# Altium schematic symbol library Button - Tactile.SchLib: 16 symbols
Pins are listed as number, name and electrical type; pins without a type are passive.

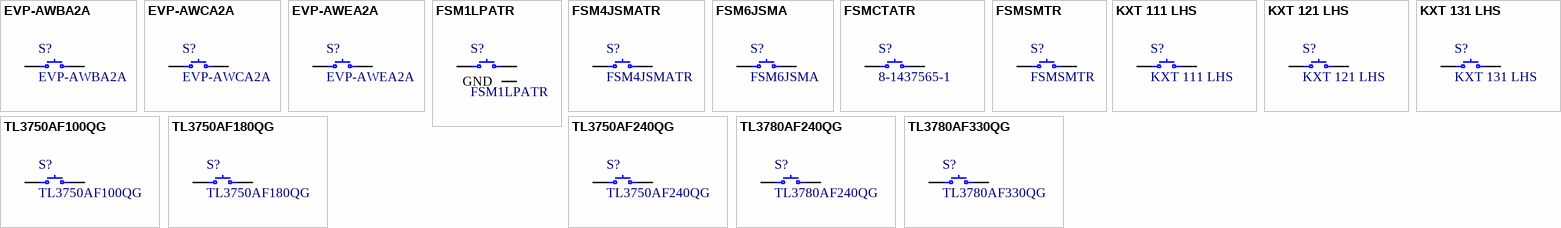
[diagram p0: symbols EVP-AWBA2A to TL3780AF330QG]

## EVP-AWBA2A
designator S?
SWITCH TACTILE SPST-NO 0.02A 15V; Manufacturer: Panasonic Electronic Components; Switch Function: Off-Mom; Contact Rating @ Voltage: 0.02A @ 15VDC; Actuator Type: Standard; Actuator Orientation: Top Actuated; Illumination: Non-Illuminated; Operating Force: 160gf; Outline: 3.00mm x 2.00mm; Part Number: EVP-AWBA2A; PartId: 16464; Supplier 1: Digi-Key; Supplier Part Number 1: P16850CT-ND; ComponentLink1Description: Datasheet; ComponentLink1URL: https://industrial.panasonic.com/cdbs/www-data/pdf/ATK0000/ATK0000C24.pdf; ComponentLink2Description: Digi-Key Listing; ComponentLink2URL: https://www.digikey.com/product-detail/en/panasonic-electronic-components/EVP-AWBA2A/P16850CT-ND/4930595; Price: 0.7; Series: EVPAW; Circuit: SPST-NO
footprint Panasonic EVPAW
pins: 1, 2

## EVP-AWCA2A
designator S?
SWITCH TACTILE SPST-NO 0.02A 15V; Manufacturer: Panasonic Electronic Components; Switch Function: Off-Mom; Contact Rating @ Voltage: 0.02A @ 15VDC; Actuator Type: Standard; Actuator Orientation: Top Actuated; Illumination: Non-Illuminated; Operating Force: 240gf; Outline: 3.00mm x 2.00mm; Part Number: EVP-AWCA2A; PartId: 16466; Supplier 1: Digi-Key; Supplier Part Number 1: P16851CT-ND; ComponentLink1Description: Datasheet; ComponentLink1URL: https://industrial.panasonic.com/cdbs/www-data/pdf/ATK0000/ATK0000C24.pdf; ComponentLink2Description: Digi-Key Listing; ComponentLink2URL: https://www.digikey.com/product-detail/en/panasonic-electronic-components/EVP-AWCA2A/P16851CT-ND/4930596; Price: 0.77; Series: EVPAW; Circuit: SPST-NO
footprint Panasonic EVPAW
pins: 1, 2

## EVP-AWEA2A
designator S?
SWITCH TACTILE SPST-NO 0.02A 15V; Manufacturer: Panasonic Electronic Components; Switch Function: Off-Mom; Contact Rating @ Voltage: 0.02A @ 15VDC; Actuator Type: Standard; Actuator Orientation: Top Actuated; Illumination: Non-Illuminated; Operating Force: 330gf; Outline: 3.00mm x 2.00mm; Part Number: EVP-AWEA2A; PartId: 16465; Supplier 1: Digi-Key; Supplier Part Number 1: P16852CT-ND; ComponentLink1Description: Datasheet; ComponentLink1URL: https://industrial.panasonic.com/cdbs/www-data/pdf/ATK0000/ATK0000C24.pdf; ComponentLink2Description: Digi-Key Listing; ComponentLink2URL: https://www.digikey.com/product-detail/en/panasonic-electronic-components/EVP-AWEA2A/P16852CT-ND/4930597; Price: 0.77; Series: EVPAW; Circuit: SPST-NO
footprint Panasonic EVPAW
pins: 1, 2

## FSM1LPATR
designator S?
SWITCH TACTILE SPST-NO 0.05A 24V; Manufacturer: TE Connectivity Alcoswitch Switches; Switch Function: Off-Mom; Contact Rating @ Voltage: 0.05A @ 24VDC; Actuator Type: Standard; Actuator Orientation: Top Actuated; Illumination: Non-Illuminated; Operating Force: 260gf; Switch Travel: 0.25mm; Mechanical Life: 100,000 Cycles; Part Number: FSM1LPATR; PartId: 8250; Supplier 1: Digi-Key; Supplier Part Number 1: 450-1760-2-ND; ComponentLink1Description: Datasheet; ComponentLink1URL: http://www.te.com/commerce/DocumentDelivery/DDEController?Action=srchrtrv&DocNm=1-1437565-8&DocType=Customer+Drawing&DocLang=English; ComponentLink2Description: Digi-Key Listing; ComponentLink2URL: http://www.digikey.com/product-detail/en/FSM1LPATR/450-1760-2-ND/1201299; Price: 0.151; Circuit: SPST-NO; Illumination Voltage: -; Illumination Type, Colour: -; Operating Temperature: -35C ~ 85C
footprint TE FSM1LPATR
pins: 1, 2, 3, 4, 5 GND

## FSM4JSMATR
designator S?
SWITCH TACTILE SPST-NO 0.05A 24V; Manufacturer: TE Connectivity Alcoswitch Switches; Switch Function: Off-Mom; Contact Rating @ Voltage: 0.05A @ 24VDC; Actuator Type: Standard; Actuator Orientation: Top Actuated; Illumination: Non-Illuminated; Operating Force: 160gf; Switch Travel: 0.25mm; Mechanical Life: 100,000 Cycles; Part Number: FSM4JSMATR; PartId: 8249; Supplier 1: Digi-Key; Supplier Part Number 1: 450-1759-2-ND; ComponentLink1Description: Datasheet; ComponentLink1URL: http://www.te.com/commerce/DocumentDelivery/DDEController?Action=srchrtrv&DocNm=2-1437565-7&DocType=Customer+Drawing&DocLang=English; ComponentLink2Description: Digi-Key Listing; ComponentLink2URL: http://www.digikey.com/product-detail/en/FSM4JSMATR/450-1759-2-ND/529675; Price: 0.128; Circuit: SPST-NO; Illumination Voltage: -; Illumination Type, Colour: -; Operating Temperature: -35C ~ 85C
footprint TE FSM4JSMA
pins: 1, 2, 3, 4

## FSM6JSMA
designator S?
SWITCH TACTILE SPST-NO 0.05A 24V; Manufacturer: TE Connectivity Alcoswitch Switches; Switch Function: Off-Mom; Contact Rating @ Voltage: 0.05A @ 24VDC; Actuator Type: Standard; Actuator Orientation: Top Actuated; Illumination: Non-Illuminated; Operating Force: 160gf; Switch Travel: 0.25mm; Mechanical Life: 100,000 Cycles; Part Number: FSM6JSMA; PartId: 7910; Supplier 1: Digi-Key; Supplier Part Number 1: 450-1133-ND; ComponentLink1Description: Datasheet; ComponentLink1URL: http://www.te.com/commerce/DocumentDelivery/DDEController?Action=srchrtrv&DocNm=2-1437565-7&DocType=Customer+Drawing&DocLang=English; ComponentLink2Description: Digi-Key Listing; ComponentLink2URL: http://www.digikey.com/product-detail/en/FSM6JSMA/450-1133-ND/525822; Price: 0.24; Circuit: SPST-NO; Illumination Voltage: -; Illumination Type, Colour: -; Operating Temperature: -35C ~ 85C
footprint TE FSM6JSMA
pins: 1, 2, 3, 4

## FSMCTATR
designator S?, comment 8-1437565-1
SWITCH TACTILE SPST-NO 0.02A 15V; Manufacturer: TE Connectivity ALCOSWITCH Switches; Switch Function: Off-Mom; Contact Rating @ Voltage: 0.02A @ 15VDC; Actuator Type: Standard; Actuator Orientation: Top Actuated; Illumination: Non-Illuminated; Operating Force: 260gf; Switch Travel: 0.25mm; Mechanical Life: 500,000 Cycles; Part Number: 8-1437565-1; Supplier 1: Digi-Key; Supplier Part Number 1: 450-1941-2-ND; ComponentLink1Description: Datasheet; ComponentLink1URL: https://www.te.com/commerce/DocumentDelivery/DDEController?Action=srchrtrv&DocNm=8-1437565-0&DocType=Customer+Drawing&DocLang=English; ComponentLink2Description: Digi-Key Listing; ComponentLink2URL: https://www.digikey.com/product-detail/en/te-connectivity-alcoswitch-switches/8-1437565-1/450-1941-2-ND/5400326; Price: 0.34; Circuit: SPST-NO; Illumination Voltage: -; Illumination Type, Colour: -; Operating Temperature: -35C ~ 85C
footprint TE FSMCT
pins: 1, 2, 3, 4

## FSMSMTR
designator S?
SWITCH TACTILE SPST-NO 0.05A 24V; Manufacturer: TE Connectivity Alcoswitch Switches; Switch Function: Off-Mom; Contact Rating @ Voltage: 0.05A @ 24VDC; Actuator Type: Standard; Actuator Orientation: Top Actuated; Illumination: Non-Illuminated; Operating Force: 180gf; Switch Travel: 0.25mm; Mechanical Life: 20,000 Cycles; Part Number: FSMSMTR; PartId: 8251; Supplier 1: Digi-Key; Supplier Part Number 1: 450-1758-2-ND; ComponentLink1Description: Datasheet; ComponentLink1URL: http://www.te.com/commerce/DocumentDelivery/DDEController?Action=srchrtrv&DocNm=1437566-3&DocType=Customer+Drawing&DocLang=English; ComponentLink2Description: Digi-Key Listing; ComponentLink2URL: http://www.digikey.com/product-detail/en/FSMSMTR/450-1758-2-ND/529671; Price: 0.175; Circuit: SPST-NO; Illumination Voltage: -; Illumination Type, Colour: -; Operating Temperature: -35C ~ 85C
footprint TE FSMSMTR
pins: 1, 2

## KXT 111 LHS
designator S?
SWITCH TACTILE SPST-NO 0.05A 12V; Manufacturer: C&K Components; Switch Function: Off-Mom; Contact Rating @ Voltage: 0.05A @ 12VDC; Actuator Type: Standard; Actuator Orientation: Top Actuated; Illumination: Non-Illuminated; Operating Force: 100gf; Outline: 3.00mm x 2.00mm; Part Number: KXT 111 LHS; PartId: 16459; Supplier 1: Digi-Key; Supplier Part Number 1: CKN10584CT-ND; ComponentLink1Description: Datasheet; ComponentLink1URL: http://www.ck-components.com/media/1465/kxt_12feb16.pdf; ComponentLink2Description: Digi-Key Listing; ComponentLink2URL: https://www.digikey.com/product-detail/en/c-k-components/KXT-111-LHS/CKN10584CT-ND/5270313; Price: 0.25; Series: KXT; Circuit: SPST-NO
footprint C&K KXT
pins: 1, 2

## KXT 121 LHS
designator S?
SWITCH TACTILE SPST-NO 0.05A 12V; Manufacturer: C&K Components; Switch Function: Off-Mom; Contact Rating @ Voltage: 0.05A @ 12VDC; Actuator Type: Standard; Actuator Orientation: Top Actuated; Illumination: Non-Illuminated; Operating Force: 180gf; Outline: 3.00mm x 2.00mm; Part Number: KXT 121 LHS; PartId: 16460; Supplier 1: Digi-Key; Supplier Part Number 1: CKN10585CT-ND; ComponentLink1Description: Datasheet; ComponentLink1URL: http://www.ck-components.com/media/1465/kxt_12feb16.pdf; ComponentLink2Description: Digi-Key Listing; ComponentLink2URL: https://www.digikey.com/product-detail/en/c-k-components/KXT-121-LHS/CKN10585CT-ND/5270314; Price: 0.25; Series: KXT; Circuit: SPST-NO
footprint C&K KXT
pins: 1, 2

## KXT 131 LHS
designator S?
SWITCH TACTILE SPST-NO 0.05A 12V; Manufacturer: C&K Components; Switch Function: Off-Mom; Contact Rating @ Voltage: 0.05A @ 12VDC; Actuator Type: Standard; Actuator Orientation: Top Actuated; Illumination: Non-Illuminated; Operating Force: 240gf; Outline: 3.00mm x 2.00mm; Part Number: KXT 131 LHS; PartId: 16458; Supplier 1: Digi-Key; Supplier Part Number 1: CKN10586CT-ND; ComponentLink1Description: Datasheet; ComponentLink1URL: http://www.ck-components.com/media/1465/kxt_12feb16.pdf; ComponentLink2Description: Digi-Key Listing; ComponentLink2URL: https://www.digikey.com/product-detail/en/c-k-components/KXT-131-LHS/CKN10586CT-ND/5270315; Price: 0.24; Series: KXT; Circuit: SPST-NO
footprint C&K KXT
pins: 1, 2

## TL3750AF100QG
designator S?
SWITCH TACTILE SPST-NO 0.05A 12V; Manufacturer: E-Switch; Switch Function: Off-Mom; Contact Rating @ Voltage: 0.05A @ 12VDC; Actuator Type: Standard; Actuator Orientation: Top Actuated; Illumination: Non-Illuminated; Operating Force: 100gf; Outline: 3.00mm x 2.00mm; Part Number: TL3750AF100QG; PartId: 16461; Supplier 1: Digi-Key; Supplier Part Number 1: EG5184CT-ND; ComponentLink1Description: Datasheet; ComponentLink1URL: //media.digikey.com/pdf/Data%20Sheets/E-Switch%20PDFs/TL3750%20Series.pdf; ComponentLink2Description: Digi-Key Listing; ComponentLink2URL: https://www.digikey.com/product-detail/en/e-switch/TL3750AF100QG/EG5184CT-ND/5287301; Price: 0.31; Series: TL3750; Circuit: SPST-NO
footprint ESWITCH TL3750
pins: 1, 2

## TL3750AF180QG
designator S?
SWITCH TACTILE SPST-NO 0.05A 12V; Manufacturer: E-Switch; Switch Function: Off-Mom; Contact Rating @ Voltage: 0.05A @ 12VDC; Actuator Type: Standard; Actuator Orientation: Top Actuated; Illumination: Non-Illuminated; Operating Force: 180gf; Outline: 3.00mm x 2.00mm; Part Number: TL3750AF180QG; PartId: 16462; Supplier 1: Digi-Key; Supplier Part Number 1: EG5185CT-ND; ComponentLink1Description: Datasheet; ComponentLink1URL: //media.digikey.com/pdf/Data%20Sheets/E-Switch%20PDFs/TL3750%20Series.pdf; ComponentLink2Description: Digi-Key Listing; ComponentLink2URL: https://www.digikey.com/product-detail/en/e-switch/TL3750AF180QG/EG5185CT-ND/5287302; Price: 0.31; Series: TL3750; Circuit: SPST-NO
footprint ESWITCH TL3750
pins: 1, 2

## TL3750AF240QG
designator S?
SWITCH TACTILE SPST-NO 0.05A 12V; Manufacturer: E-Switch; Switch Function: Off-Mom; Contact Rating @ Voltage: 0.05A @ 12VDC; Actuator Type: Standard; Actuator Orientation: Top Actuated; Illumination: Non-Illuminated; Operating Force: 240gf; Outline: 3.00mm x 2.00mm; Part Number: TL3750AF240QG; PartId: 16463; Supplier 1: Digi-Key; Supplier Part Number 1: EG5186CT-ND; ComponentLink1Description: Datasheet; ComponentLink1URL: //media.digikey.com/pdf/Data%20Sheets/E-Switch%20PDFs/TL3750%20Series.pdf; ComponentLink2Description: Digi-Key Listing; ComponentLink2URL: https://www.digikey.com/product-detail/en/e-switch/TL3750AF240QG/EG5186CT-ND/5287303; Price: 0.31; Series: TL3750; Circuit: SPST-NO
footprint ESWITCH TL3750
pins: 1, 2

## TL3780AF240QG
designator S?
SWITCH TACTILE SPST-NO 0.02A 15V; Manufacturer: E-Switch; Switch Function: Off-Mom; Contact Rating @ Voltage: 0.02A @ 15VDC; Actuator Type: Standard; Actuator Orientation: Top Actuated; Illumination: Non-Illuminated; Operating Force: 240gf; Outline: 3.00mm x 2.00mm; Part Number: TL3780AF240QG; PartId: 16468; Supplier 1: Digi-Key; Supplier Part Number 1: EG5393CT-ND; ComponentLink1Description: Datasheet; ComponentLink1URL: https://www.e-switch.com/system/asset/product_line/data_sheet/221/TL3780.pdf; ComponentLink2Description: Digi-Key Listing; ComponentLink2URL: https://www.digikey.com/product-detail/en/e-switch/TL3780AF240QG/EG5393CT-ND/6003169; Price: 0.33; Series: TL3780; Circuit: SPST-NO
footprint ESWITCH TL3750
pins: 1, 2

## TL3780AF330QG
designator S?
SWITCH TACTILE SPST-NO 0.02A 15V; Manufacturer: E-Switch; Switch Function: Off-Mom; Contact Rating @ Voltage: 0.02A @ 15VDC; Actuator Type: Standard; Actuator Orientation: Top Actuated; Illumination: Non-Illuminated; Operating Force: 330gf; Outline: 3.00mm x 2.00mm; Part Number: TL3780AF330QG; PartId: 16467; Supplier 1: Digi-Key; Supplier Part Number 1: EG5394CT-ND; ComponentLink1Description: Datasheet; ComponentLink1URL: https://www.e-switch.com/system/asset/product_line/data_sheet/221/TL3780.pdf; ComponentLink2Description: Digi-Key Listing; ComponentLink2URL: https://www.digikey.com/product-detail/en/e-switch/TL3780AF330QG/EG5394CT-ND/6003170; Price: 0.33; Series: TL3780; Circuit: SPST-NO
footprint ESWITCH TL3750
pins: 1, 2